# EAGLE library part 050_610_?-25/50 (library con-sullinselectronics)
.050 DIP EDGE CARD CONNECTOR .050 [1.27mm] CONTACT CENTERS .610" INSULATEOR HEIGHT Source: .050 DIP EDGE CARD.pdf
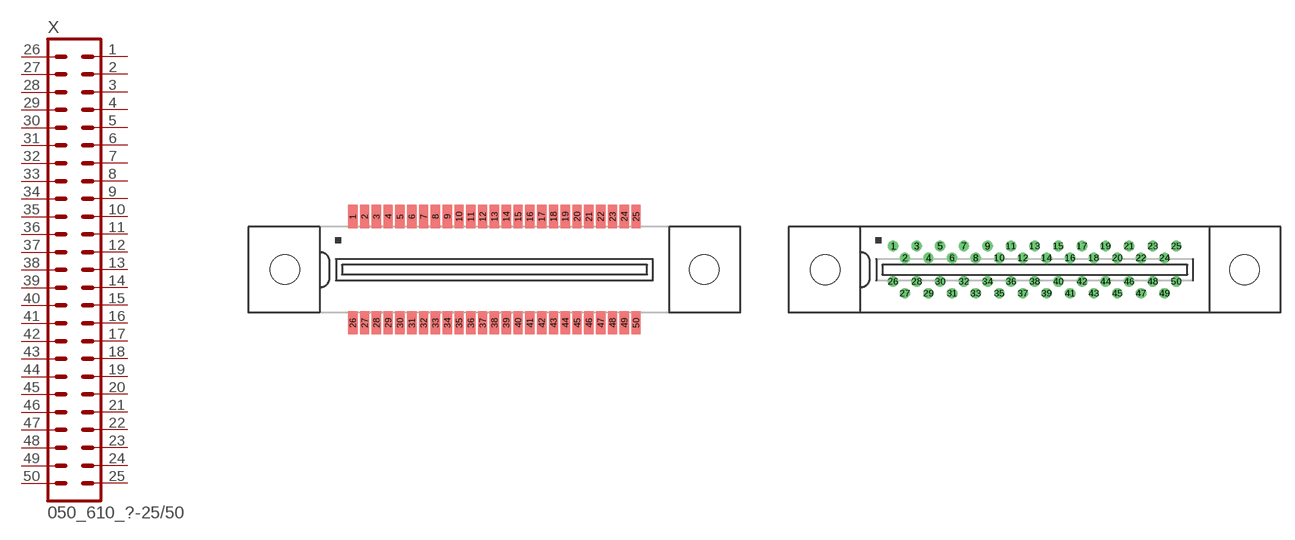
[diagram p12: symbol with the pads of 050_610_HF-25/50; footprints 050_610_HF-25/50, 050_610_HH-25/50]

Designator prefix X

## 050_610_HF-25/50 (OC_FARNELL: unknown; OC_NEWARK: unknown)  [050_610_HF-25/50]
1  1  pas
2  2  pas
3  3  pas
4  4  pas
5  5  pas
6  6  pas
7  7  pas
8  8  pas
9  9  pas
10  10  pas
11  11  pas
12  12  pas
13  13  pas
14  14  pas
15  15  pas
16  16  pas
17  17  pas
18  18  pas
19  19  pas
20  20  pas
21  21  pas
22  22  pas
23  23  pas
24  24  pas
25  25  pas
26  26  pas
27  27  pas
28  28  pas
29  29  pas
30  30  pas
31  31  pas
32  32  pas
33  33  pas
34  34  pas
35  35  pas
36  36  pas
37  37  pas
38  38  pas
39  39  pas
40  40  pas
41  41  pas
42  42  pas
43  43  pas
44  44  pas
45  45  pas
46  46  pas
47  47  pas
48  48  pas
49  49  pas
50  50  pas

## 050_610_HH-25/50 (OC_FARNELL: unknown; OC_NEWARK: unknown)  [050_610_HH-25/50]
Pads as for 050_610_HF-25/50

## Footprint 050_610_HF-25/50 (pad centres in mm)
.050 DIP EDGE CARD CONNECTOR SURFACE MOUNT .050 [1.27mm] CONTACT CENTERS .610" INSULATEOR HEIGHT Source: .050 DIP EDGE CARD.pdf
smd 1 x 2.5: 1 -15.24,5.715; 2 -13.97,5.715; 3 -12.7,5.715; 4 -11.43,5.715; 5 -10.16,5.715; 6 -8.89,5.715; 7 -7.62,5.715; 8 -6.35,5.715; 9 -5.08,5.715; 10 -3.81,5.715; 11 -2.54,5.715; 12 -1.27,5.715; 13 0,5.715; 14 1.27,5.715; 15 2.54,5.715; 16 3.81,5.715; 17 5.08,5.715; 18 6.35,5.715; 19 7.62,5.715; 20 8.89,5.715; 21 10.16,5.715; 22 11.43,5.715; 23 12.7,5.715; 24 13.97,5.715; 25 15.24,5.715; 26 -15.24,-5.715; 27 -13.97,-5.715; 28 -12.7,-5.715; 29 -11.43,-5.715; 30 -10.16,-5.715; 31 -8.89,-5.715; 32 -7.62,-5.715; 33 -6.35,-5.715; 34 -5.08,-5.715; 35 -3.81,-5.715; 36 -2.54,-5.715; 37 -1.27,-5.715; 38 0,-5.715; 39 1.27,-5.715; 40 2.54,-5.715; 41 3.81,-5.715; 42 5.08,-5.715; 43 6.35,-5.715; 44 7.62,-5.715; 45 8.89,-5.715; 46 10.16,-5.715; 47 11.43,-5.715; 48 12.7,-5.715; 49 13.97,-5.715; 50 15.24,-5.715
hole 3.18 at -22.555,0
hole 3.18 at 22.555,0

## Footprint 050_610_HH-25/50 (pad centres in mm)
.050 DIP EDGE CARD CONNECTOR STAGGERED DIP SOLDER .050 [1.27mm] CONTACT CENTERS .610" INSULATEOR HEIGHT Source: .050 DIP EDGE CARD.pdf
drill 0.6 pad 1: 1 -15.24,2.54; 2 -13.97,1.27; 3 -12.7,2.54; 4 -11.43,1.27; 5 -10.16,2.54; 6 -8.89,1.27; 7 -7.62,2.54; 8 -6.35,1.27; 9 -5.08,2.54; 10 -3.81,1.27; 11 -2.54,2.54; 12 -1.27,1.27; 13 0,2.54; 14 1.27,1.27; 15 2.54,2.54; 16 3.81,1.27; 17 5.08,2.54; 18 6.35,1.27; 19 7.62,2.54; 20 8.89,1.27; 21 10.16,2.54; 22 11.43,1.27; 23 12.7,2.54; 24 13.97,1.27; 25 15.24,2.54; 26 -15.24,-1.27; 27 -13.97,-2.54; 28 -12.7,-1.27; 29 -11.43,-2.54; 30 -10.16,-1.27; 31 -8.89,-2.54; 32 -7.62,-1.27; 33 -6.35,-2.54; 34 -5.08,-1.27; 35 -3.81,-2.54; 36 -2.54,-1.27; 37 -1.27,-2.54; 38 0,-1.27; 39 1.27,-2.54; 40 2.54,-1.27; 41 3.81,-2.54; 42 5.08,-1.27; 43 6.35,-2.54; 44 7.62,-1.27; 45 8.89,-2.54; 46 10.16,-1.27; 47 11.43,-2.54; 48 12.7,-1.27; 49 13.97,-2.54; 50 15.24,-1.27
hole 3.18 at -22.555,0
hole 3.18 at 22.555,0